# Altium footprint library CAPAE1030X1050N.PcbLib: 1 footprints
Each footprint in its own frame and in the unit in brackets; x right, y up, seen from the top. Pads: shape width x height; smd on the part's side, far side on the other; paste and mask are expansions set on the pad; w line width, h text height; cw(c..) or ccw(c..) is an arc to the next point about the centre after c.
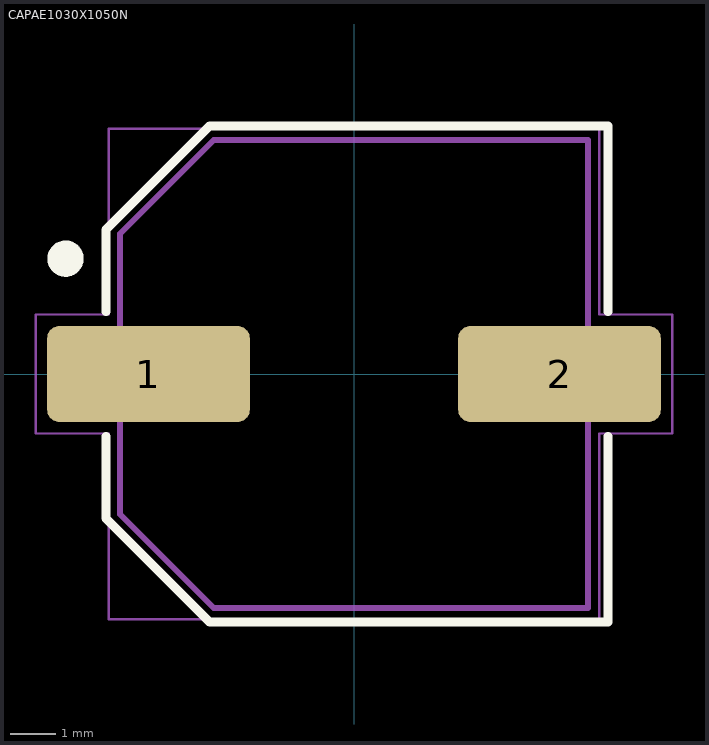
[diagram p0: the footprint, top view; thin cyan lines are the x and y axes]

## CAPAE1030X1050N [mm]
pads (2):
  rrect25% 4.46x2.12 smd: 1(-4.525,0) 2(4.525,0)
Top Overlay:
  circle w0.4: c-6.35,2.54 r0.2
  lines w0.2: -5.461,-1.38 -5.461,-3.175 -3.175,-5.461 5.588,-5.461 5.588,-1.38 ; -5.461,1.38 -5.461,3.175 -3.175,5.461 5.588,5.461 5.588,1.38
Mechanical 13:
  circle w0.5: c-6.35,2.54 r0.1
  lines w0.127: -5.15,-3.09 -5.15,3.09 -3.09,5.15 5.15,5.15 5.15,-5.15 -3.09,-5.15 -5.15,-3.09
Mechanical 15:
  lines w0.05: -7.005,-1.31 -7.005,1.31 -5.4,1.31 -5.4,5.4 5.4,5.4 5.4,1.31 7.005,1.31 7.005,-1.31 5.4,-1.31 5.4,-5.4 -5.4,-5.4 -5.4,-1.31 -7.005,-1.31
3D body "CAP ALUM 10_3mm.STEP": height 10.5, standoff 0, extent -5.8,-5.15 5.8,5.15